# Altium footprint library Copy of FOOTPRNT[1].PcbLib: 16 footprints
Each footprint in its own frame and in the unit in brackets; x right, y up, seen from the top. Pads: shape width x height; smd on the part's side, far side on the other; paste and mask are expansions set on the pad; w line width, h text height; cw(c..) or ccw(c..) is an arc to the next point about the centre after c.
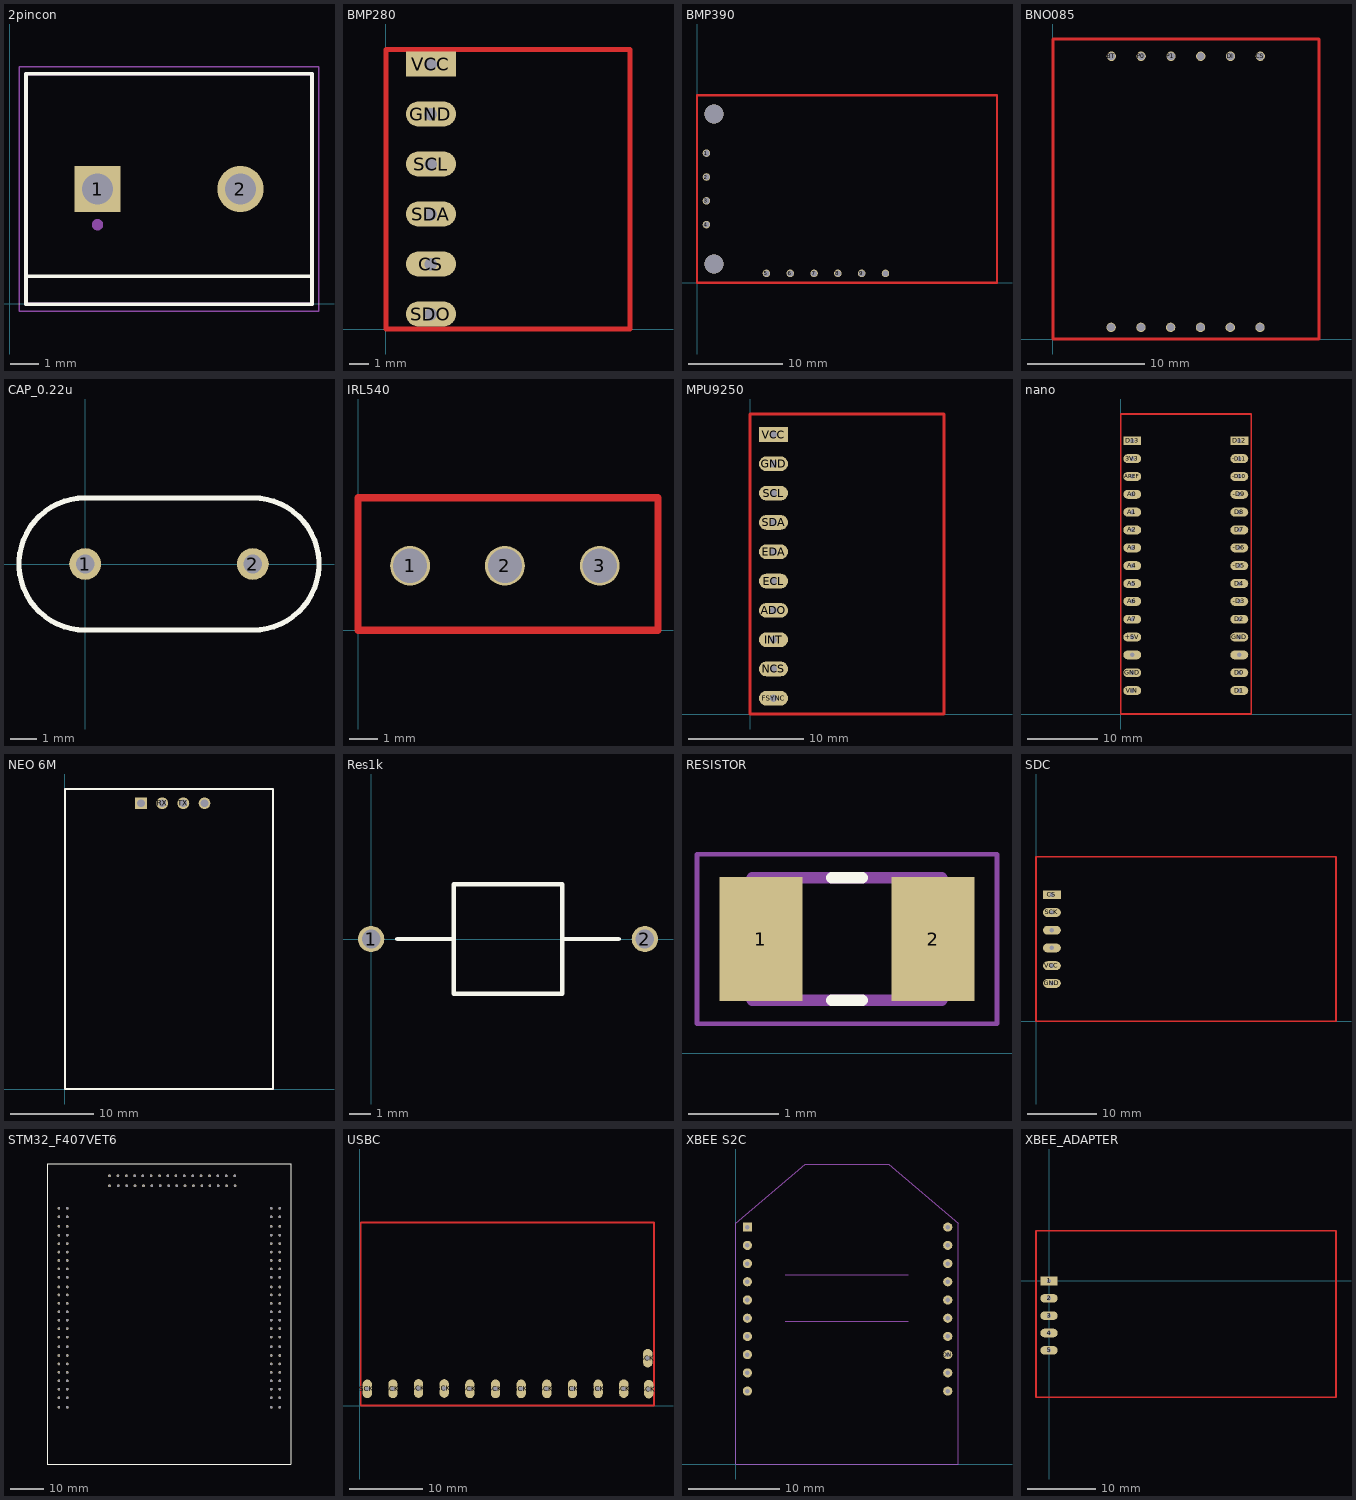
[diagram p0: the footprints below, top view; thin cyan lines are the x and y axes]

## 2pincon [mm]
pads (2):
  rect 1.65x1.65 / inner round 1.65 / far side rect 1.65x1.65 hole 1.1: 1(3.127,4.071)
  round 1.65 hole 1.1: 2(8.207,4.071)
Top Overlay:
  lines w0.127: 0.587,0.971 0.587,-0.029 10.747,-0.029 10.747,0.971 ; 0.587,0.971 0.587,8.171 10.747,8.171 10.747,0.971 ; 0.587,0.971 10.747,0.971
Mechanical 13:
  circle w0.2: c3.127,2.801 r0.1
  lines w0.127: 0.587,-0.029 10.747,-0.029 10.747,8.171 0.587,8.171 0.587,-0.029
Mechanical 15:
  lines w0.05: 0.337,-0.279 10.997,-0.279 10.997,8.421 0.337,8.421 0.337,-0.279
3D body "step_temp.STEP": height 10, standoff -3.5, extent -0.013,-0.029 10.747,8.171

## BMP280 [mil]
pads (6):
  oval 100x50 hole 25: CS(90,130) GND(90,430) SCL(90,330) SDA(90,230) SDO(90,30)
  rect 100x50 hole 25: VCC(90,530)
Top Layer:
  lines w10: 0,0 488.19,0 488.19,559.06 0,559.06 0,0

## BMP390 [mm]
pads (10):
  round 0.8 hole 0.66: 1(1,13.82) 2(1,11.28) 3(1,8.74) 4(1,6.2) 5(7.4,1) 6(9.94,1) 7(12.48,1) 8(15.02,1) 9(17.56,1) 10(20.1,1)
via 1.8,18 diameter 2 hole 2
via 1.8,2 diameter 2 hole 2
Top Layer:
  lines w0.254: -0.006,0 31.994,0 31.994,20 -0.006,20 -0.006,0

## BNO085 [mm]
pads (12):
  round 0.8 hole 0.66: 3Vo(7.504,1.002) BT(4.982,24.134) CS(17.692,24.134) DI(15.15,24.134) GND(10.046,1.002) INT(17.672,1.002) P0(7.524,24.134) P1(10.066,24.134) RST(12.608,24.134) SCL(12.588,1.002) SDA(15.13,1.002) Vin(4.962,1.002)
Top Layer:
  lines w0.254: 0.002,0.008 22.702,0.008 22.702,25.608 0.002,25.608 0.002,0.008

## CAP_0.22u [mm]
pads (2):
  round 1.2 hole 0.7: 1(0,0) 2(6.35,0)
Top Overlay:
  lines w0.2: 0,-2.5 cw(c0,0) 0,2.5 6.35,2.5 cw(c6.35,0) 6.35,-2.5 0,-2.5

## IRL540 [mm]
pads (3):
  round 1.4 hole 1.2: 1(1.82,2.264) 2(5.146,2.264) 3(8.472,2.264)
Top Layer:
  lines w0.254: -0.006,0 10.514,0 10.514,4.65 -0.006,4.65 -0.006,0

## MPU9250 [mil]
pads (10):
  oval 100x50 hole 25: ADO(80,353.62) ECL(80,453.62) EDA(80,553.62) FSYNC(80,53.62) GND(80,853.62) INT(80,253.62) NCS(80,153.62) SCL(80,753.62) SDA(80,653.62)
  rect 100x50 hole 25: VCC(80,953.62)
Top Layer:
  lines w10: 0,0 661.42,0 661.42,1023.62 0,1023.62 0,0

## nano [mm]
pads (30):
  oval 2.54x1.27 hole 0.635: 3V3(1.651,36.35) +5V(1.651,10.95) -D3(16.891,16.03) -D5(16.891,21.11) -D6(16.891,23.65) -D9(16.891,31.27) -D10(16.891,33.81) -D11(16.891,36.35) A0(1.651,31.27) A1(1.651,28.73) A2(1.651,26.19) A3(1.651,23.65) A4(1.651,21.11) A5(1.651,18.57) A6(1.651,16.03) A7(1.651,13.49) AREF(1.651,33.81) D0(16.891,5.87) D1(16.891,3.33) D2(16.891,13.49) D4(16.891,18.57) D7(16.891,26.19) D8(16.891,28.73) GND(1.651,5.87) GND(16.891,10.95) RESET(1.651,8.41) RESET(16.891,8.41) VIN(1.651,3.33)
  rect 2.54x1.27 hole 0.635: D12(16.891,38.89) D13(1.651,38.89)
Top Layer:
  lines w0.254: 0,0 18.6,0 18.6,42.7 0,42.7 0,0

## NEO 6M [mil]
pads (4):
  round 55.67 hole 35.98 paste-99999 mask+0: GND(660,1350) RX(460,1350) TX(560,1350)
  rect 55.67x55.67 hole 35.98 paste-99999 mask+0: VCC(360,1350)
Top Overlay:
  lines w10: 0,0 0,1417.32 984.25,1417.32 984.25,0 0,0

## Res1k [mm]
pads (2):
  round 1.2 hole 0.85: 1(0,0) 2(12.5,0)
Top Overlay:
  lines w0.2: 1.2,0 3.775,0 ; 8.725,0 11.3,0 ; 3.775,0 3.775,2.5 8.725,2.5 8.725,-2.5 3.775,-2.5 3.775,0

## RESISTOR [mm]
pads (2):
  rect 0.92x1.38 smd: 1(15.682,1.27) 2(17.592,1.27)
Top Overlay:
  lines w0.127: 16.467,0.59 16.807,0.59 ; 16.467,1.95 16.807,1.95
Mechanical 13:
  lines w0.127: 15.587,0.59 15.587,1.95 17.687,1.95 17.687,0.59 15.587,0.59
Mechanical 15:
  lines w0.05: 14.972,0.33 14.972,2.21 18.302,2.21 18.302,0.33 14.972,0.33
3D body "step_temp.STEP": height 0.6, standoff 0, extent 15.637,0.645 17.637,1.895

## SDC [mil]
pads (6):
  rect 100x50 hole 25: CS(90,714.13)
  oval 100x50 hole 25: GND(90,214.13) MISO(90,414.13) MOSI(90,514.13) SCK(90,614.13) VCC(90,314.13)
Top Layer:
  lines w10: 0,0 1692.91,0 1692.91,929.13 0,929.13 0,0

## STM32_F407VET6 [mm]
pads (128):
  round 0.8 hole 0.66: 1(61.796,-136.991) 1(61.796,-134.091) 1(61.796,-131.551) 1(61.796,-129.011) 1(61.796,-126.471) 1(61.796,-123.931) 1(61.796,-121.391) 1(61.796,-118.741) 1(61.796,-115.841) 1(61.796,-113.301) 1(61.796,-110.761) 1(61.796,-108.221) 1(61.796,-105.681) 1(61.796,-103.141) 1(61.796,-100.741) 1(61.796,-97.841) 1(61.796,-95.301) 1(61.796,-92.761) 1(61.796,-90.221) 1(61.796,-87.681) 1(61.796,-85.141) 1(61.796,-77.051) 1(64.336,-136.991) 1(64.336,-134.091) 1(64.336,-131.551) 1(64.336,-129.011) 1(64.336,-126.471) 1(64.336,-123.931) 1(64.336,-121.391) 1(64.336,-118.741) 1(64.336,-115.841) 1(64.336,-113.301) 1(64.336,-110.761) 1(64.336,-108.221) 1(64.336,-105.681) 1(64.336,-103.141) 1(64.336,-100.741) 1(64.336,-97.841) 1(64.336,-95.301) 1(64.336,-92.761) 1(64.336,-90.221) 1(64.336,-87.681) 1(64.336,-85.141) 1(64.336,-82.491) 1(64.336,-79.591) 1(64.336,-77.051) 1(125.796,-136.991) 1(125.796,-134.091) 1(125.796,-131.551) 1(125.796,-129.011) 1(125.796,-126.471) 1(125.796,-123.931) 1(125.796,-121.391) 1(125.796,-118.741) 1(125.796,-115.841) 1(125.796,-113.301) 1(125.796,-110.761) 1(125.796,-108.221) 1(125.796,-105.681) 1(125.796,-103.141) 1(125.796,-100.741) 1(125.796,-97.841) 1(125.796,-95.301) 1(125.796,-92.761) 1(125.796,-90.221) 1(125.796,-87.681) 1(125.796,-85.141) 1(125.796,-82.491) 1(125.796,-79.591) 1(125.796,-77.051) 1(128.336,-136.991) 1(128.336,-134.091) 1(128.336,-131.551) 1(128.336,-129.011) 1(128.336,-126.471) 1(128.336,-123.931) 1(128.336,-121.391) 1(128.336,-118.741) 1(128.336,-115.841) 1(128.336,-113.301) 1(128.336,-110.761) 1(128.336,-108.221) 1(128.336,-105.681) 1(128.336,-103.141) 1(128.336,-100.741) 1(128.336,-97.841) 1(128.336,-95.301) 1(128.336,-92.761) 1(128.336,-90.221) 1(128.336,-87.681) 1(128.336,-85.141) 1(128.336,-82.491) 1(128.336,-79.591) 1(128.336,-77.051) 2(61.796,-79.591) 2(77.042,-70.256) 2(77.042,-67.241) 2(79.586,-67.241) 2(79.696,-70.241) 2(82.126,-67.241) 2(82.236,-70.241) 2(84.626,-67.241) 2(84.736,-70.241) 2(87.046,-67.241) 2(87.296,-70.241) 2(89.586,-67.241) 2(89.796,-70.241) 2(92.126,-67.241) 2(92.336,-70.241) 2(94.626,-67.241) 2(94.876,-70.241) 2(97.046,-67.241) 2(97.296,-70.241) 2(99.586,-67.241) 2(99.796,-70.241) 2(102.126,-67.241) 2(102.336,-70.241) 2(104.626,-67.241) 2(104.876,-70.241) 2(107.186,-67.241) 2(107.296,-70.241) 2(109.686,-67.241) 2(109.796,-70.241) 2(112.226,-67.241) 2(112.336,-70.241) 2(114.766,-67.241) 2(114.876,-70.241) 3(61.796,-82.491)
Top Overlay:
  lines w0.254: 58.27,-154.08 58.27,-63.692 131.678,-63.692 131.678,-154.08 58.27,-154.08

## USBC [mm]
pads (13):
  oval 1.27x2.54 hole 0.635: SCK(1.016,2.286) SCK(4.51,2.292) SCK(8.01,2.336) SCK(11.51,2.336) SCK(15.01,2.286) SCK(18.51,2.286) SCK(22.01,2.286) SCK(25.51,2.286) SCK(29.01,2.286) SCK(32.51,2.286) SCK(36.01,2.314) SCK(39.282,6.472) SCK(39.41,2.248)
Top Layer:
  lines w0.254: 0.127,0 40.127,0 40.127,25 0.127,25 0.127,0

## XBEE S2C [mm]
pads (20):
  round 1.008 hole 0.5: DIN(1.254,22.009) DIO0(23.254,26.009) DIO1(23.254,24.009) DIO2(23.254,22.009) DIO3(23.254,20.009) DIO5(23.254,16.009) DIO6(23.254,18.009) DIO7(23.254,10.009) DIO8(1.254,10.009) DIO10(1.254,16.009) DIO11(1.254,14.009) DIO12(1.254,20.009) DO4(23.254,8.009) DOUT(1.254,24.009) GND(1.254,8.009) ON(23.254,12.009) RESERVED(1.254,12.009) RESET(1.254,18.009) VREF(23.254,14.009)
  rect 1.008x1.008 / inner round 1.008 / far side rect 1.008x1.008 hole 0.5: VCC(1.254,26.009)
Mechanical 13:
  lines w0: 5.4,15.7 18.9,15.7 ; 5.4,20.8 18.9,20.8 ; 0.002,0.001 24.381,0.001 24.381,26.411 16.791,32.941 7.593,32.941 0.002,26.41 0.002,0.001
  text "XBee" at 6.007,17.22 h3.81
3D body "step_temp.STEP": height 4.6, standoff -4.06, extent 0.002,0 24.382,32.94

## XBEE_ADAPTER [mm]
pads (5):
  rect 2.54x1.27 hole 0.635: 1(0,0)
  oval 2.54x1.27 hole 0.635: 2(0,-2.54) 3(0,-5.08) 4(0,-7.62) 5(0,-10.16)
Top Layer:
  lines w0.254: -1.905,-17.034 41.995,-17.034 41.995,7.366 -1.905,7.366 -1.905,-17.034